# Altium schematic symbol library Choke.Schlib: 1 symbol
Pins are listed as number, name and electrical type; pins without a type are passive.

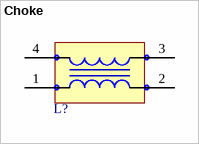
[diagram p0: symbol Choke]

## Choke
designator L?  (value not drawn)
Choke, Common Mode
pins: 1, 2, 3, 4